# EAGLE library part IC-REGULATOR-SWITCHING- (library elpp-tht-v1.4)
Switching voltage regulator
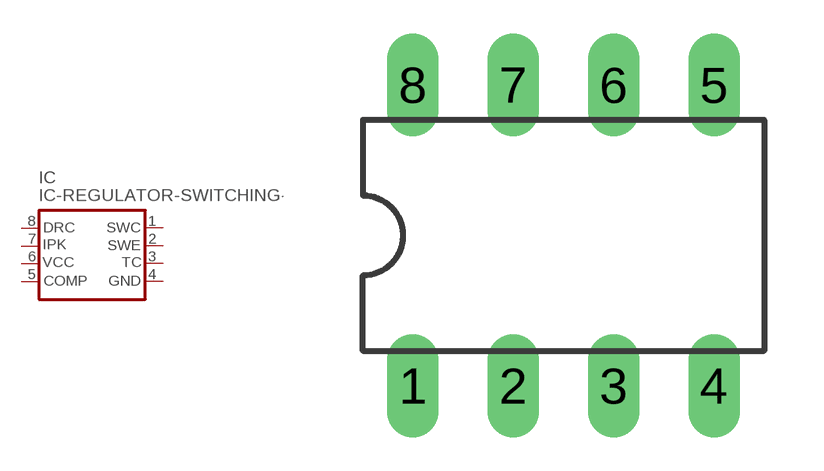
[diagram p51: symbol with the pads of ELPP-DIP-8; footprint ELPP-DIP-8]

Designator prefix IC

## IC-REGULATOR-SWITCHING-MC34063A (FARNELL: 1053579; RS: 6618430)  [ELPP-DIP-8]
1  1
2  2
3  3  in
4  4  in
5  5  in
6  6  in
7  7  in
8  8  in

## Footprint ELPP-DIP-8 (pad centres in mm)
Dual In Line (DIL), 8-way
drill 0.8 long: 1 -3.81,-3.81; 2 -1.27,-3.81; 3 1.27,-3.81; 4 3.81,-3.81; 5 3.81,3.81; 6 1.27,3.81; 7 -1.27,3.81; 8 -3.81,3.81